# Altium schematic symbol library LTST-C230KRKT.SchLib: 1 symbol
Pins are listed as number, name and electrical type; pins without a type are passive.

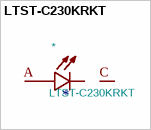
[diagram p0: symbol LTST-C230KRKT]

## LTST-C230KRKT
designator *  value LTST-C230KRKT
\n                        \n                            Red 631nm LED Indication - Discrete 2V 1206 (3216 Metric)\n                        \n; MF: Lite-On Inc.; Footprint: LTST-C230KRKT:LED_LTST-C230KRKT; MAXIMUM_PACKAGE_HEIGHT: 1.10 mm; Package: 1206 Lite-On; Price: None; Check_prices: https://www.snapeda.com/parts/LTST-C230KRKT/Lite-On/view-part/?ref=eda; STANDARD: Manufacturer Recommendations; PARTREV: E; SnapEDA_Link: https://www.snapeda.com/parts/LTST-C230KRKT/Lite-On/view-part/?ref=snap; MP: LTST-C230KRKT; Description_: \n                        \n                            Red 631nm LED Indication - Discrete 2V 1206 (3216 Metric)\n                        \n; MANUFACTURER: Lite-On Inc.; Availability: In Stock; SNAPEDA_PN: LTST-C230KRKT
footprint LED_LTST-C230KRKT
pins: A, C